# Altium footprint library RMCF1206FT220R.PcbLib: 3 footprints
Each footprint in its own frame and in the unit in brackets; x right, y up, seen from the top. Pads: shape width x height; smd on the part's side, far side on the other; paste and mask are expansions set on the pad; w line width, h text height; cw(c..) or ccw(c..) is an arc to the next point about the centre after c.
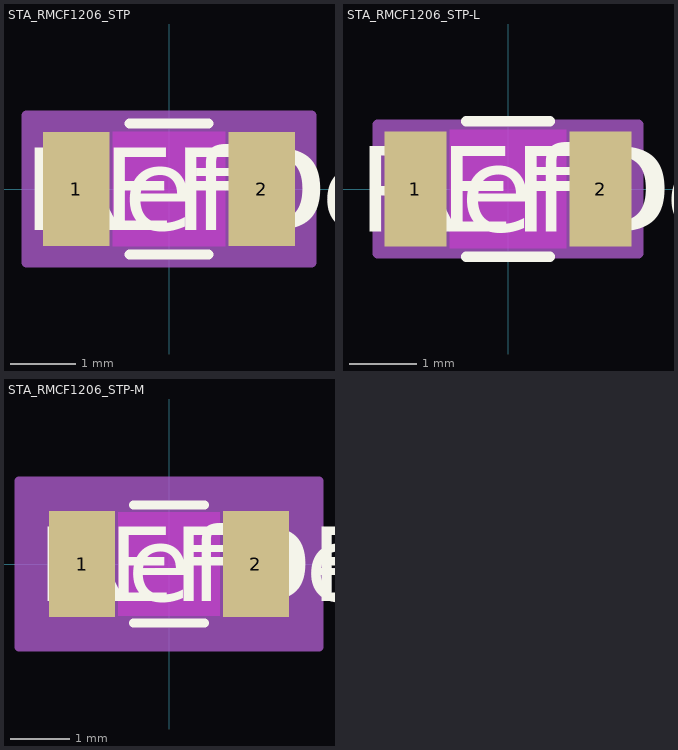
[diagram p0: the footprints below, top view; thin cyan lines are the x and y axes]

## STA_RMCF1206_STP [mil]
pads (2):
  rect 40x69 smd paste+0 mask+0: 1(-56,0) 2(56,0)
Top Layer keep-out:
  region: -34,-32.5 -34,32.5 34,32.5 34,-32.5
Top Overlay:
  lines w6: -23.89,-39.5 23.89,-39.5 ; -23.89,39.5 23.89,39.5
  text "RefDes" at -75,-25 h50
  text "REFDES" at -87.5,-25 h50
Keep-Out Layer:
  region: -34,-34.5 -34,34.5 34,34.5 34,-34.5
Mechanical 13:
  lines w1: -68,-34.5 -68,34.5 ; -68,-34.5 -36,-34.5 -36,34.5 -68,34.5 ; -68,-34.5 68,-34.5 ; -68,-34.5 -68,34.5 ; -68,34.5 68,34.5 ; 68,-34.5 36,-34.5 36,34.5 68,34.5 ; 68,-34.5 68,34.5 ; 68,-34.5 68,34.5
  text "RefDes2" at -87.5,-25 h50
Mechanical 15:
  region: 86,-44.5 -86,-44.5 -86,44.5 86,44.5
  lines w6: -86,-44.5 -86,44.5 86,44.5 86,-44.5 -86,-44.5
3D body "STA_RMCF1206_STP.step": height 27.99, standoff 0, extent -67.99,-34.49 67.99,34.49

## STA_RMCF1206_STP-L [mil]
pads (2):
  rect 36x67 smd paste+0 mask+0: 1(-54,0) 2(54,0)
Top Layer keep-out:
  region: -34,-32.5 -34,32.5 34,32.5 34,-32.5
Top Overlay:
  lines w6: -24.35,-39.5 24.35,-39.5 ; -24.35,39.5 24.35,39.5
  text "RefDes" at -75,-25 h50
  text "REFDES" at -87.5,-25 h50
Keep-Out Layer:
  region: -34,-34.5 -34,34.5 34,34.5 34,-34.5
Mechanical 13:
  lines w1: -68,-34.5 -68,34.5 ; -68,-34.5 -36,-34.5 -36,34.5 -68,34.5 ; -68,-34.5 68,-34.5 ; -68,-34.5 -68,34.5 ; -68,34.5 68,34.5 ; 68,-34.5 36,-34.5 36,34.5 68,34.5 ; 68,-34.5 68,34.5 ; 68,-34.5 68,34.5
  text "RefDes2" at -87.5,-25 h50
Mechanical 15:
  region: 76,-37.5 -76,-37.5 -76,37.5 76,37.5
  lines w6: -76,-37.5 -76,37.5 76,37.5 76,-37.5 -76,-37.5
3D body "STA_RMCF1206_STP.step": height 27.99, standoff 0, extent -67.99,-34.49 67.99,34.49

## STA_RMCF1206_STP-M [mil]
pads (2):
  rect 44x71 smd paste+0 mask+0: 1(-58,0) 2(58,0)
Top Layer keep-out:
  region: -34,-32.5 -34,32.5 34,32.5 34,-32.5
Top Overlay:
  lines w6: -23.53,-39.5 23.53,-39.5 ; -23.53,39.5 23.53,39.5
  text "RefDes" at -75,-25 h50
  text "REFDES" at -87.5,-25 h50
Keep-Out Layer:
  region: -34,-34.5 -34,34.5 34,34.5 34,-34.5
Mechanical 13:
  lines w1: -68,-34.5 -68,34.5 ; -68,-34.5 -36,-34.5 -36,34.5 -68,34.5 ; -68,-34.5 68,-34.5 ; -68,-34.5 -68,34.5 ; -68,34.5 68,34.5 ; 68,-34.5 36,-34.5 36,34.5 68,34.5 ; 68,-34.5 68,34.5 ; 68,-34.5 68,34.5
  text "RefDes2" at -87.5,-25 h50
Mechanical 15:
  region: 100,-55.5 -100,-55.5 -100,55.5 100,55.5
  lines w6: -100,-55.5 -100,55.5 100,55.5 100,-55.5 -100,-55.5
3D body "STA_RMCF1206_STP.step": height 27.99, standoff 0, extent -67.99,-34.49 67.99,34.49